# Altium schematic symbol library WP914CK_4GDT.Schlib: 1 symbol
Pins are listed as number, name and electrical type; pins without a type are passive.

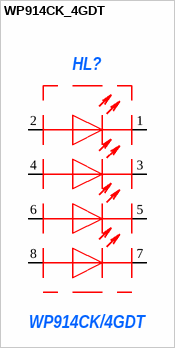
[diagram p0: symbol WP914CK_4GDT]

## WP914CK_4GDT
designator HL?, comment WP914CK/4GDT
Green LED; MANUFACTURER: Broadcom; GROUP: СВЕТОДИОД; PROCESS: SMD; INFO: RoHS; DATASHEET_LINK: https://ru.mouser.com/datasheet/2/216/WP914CK-4GDT-50948.pdf; Manufacturer Part Number: WP914CK/4GDT; PROCESS_NSFT: SMD
footprint WP914CK/4GDT
pins: 1, 2, 3, 4, 5, 6, 7, 8